# Altium footprint library XINGLIGHT_XL-5050RGBC-WS2812B-S.PcbLib: 1 footprints
Each footprint in its own frame and in the unit in brackets; x right, y up, seen from the top. Pads: shape width x height; smd on the part's side, far side on the other; paste and mask are expansions set on the pad; w line width, h text height; cw(c..) or ccw(c..) is an arc to the next point about the centre after c.
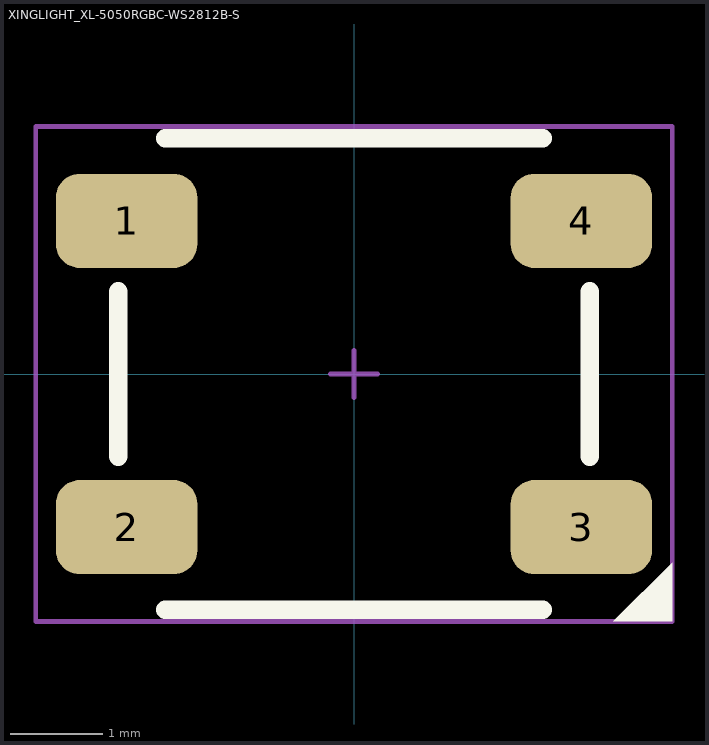
[diagram p0: the footprint, top view; thin cyan lines are the x and y axes]

## XINGLIGHT_XL-5050RGBC-WS2812B-S [mm]
pads (4):
  rrect50% 1.524x1.016 smd: 1(-2.45,1.65) 2(-2.45,-1.65) 3(2.45,-1.65) 4(2.45,1.65)
Top Overlay:
  region: 3.429,-2.667 3.429,-2.032 2.794,-2.667
  lines w0.2: -2.54,-0.889 -2.54,0.889 ; -2.032,-2.54 2.032,-2.54 ; -2.032,2.54 2.032,2.54 ; 2.54,-0.889 2.54,0.889
Mechanical 15:
  lines w0.05: -0.254,0 0.254,0 ; 0,-0.254 0,0.254 ; -3.429,-2.667 -3.429,2.667 3.429,2.667 3.429,-2.667 -3.429,-2.667
3D body "User Library-ws2812B-1.step": height 1.59, standoff 0.02, extent -2.7,-2.5 2.7,2.5